# Altium footprint library PcbLib1.PcbLib: 22 footprints (part 1 of 2)
Each footprint in its own frame and in the unit in brackets; x right, y up, seen from the top. Pads: shape width x height; smd on the part's side, far side on the other; paste and mask are expansions set on the pad; w line width, h text height; cw(c..) or ccw(c..) is an arc to the next point about the centre after c.
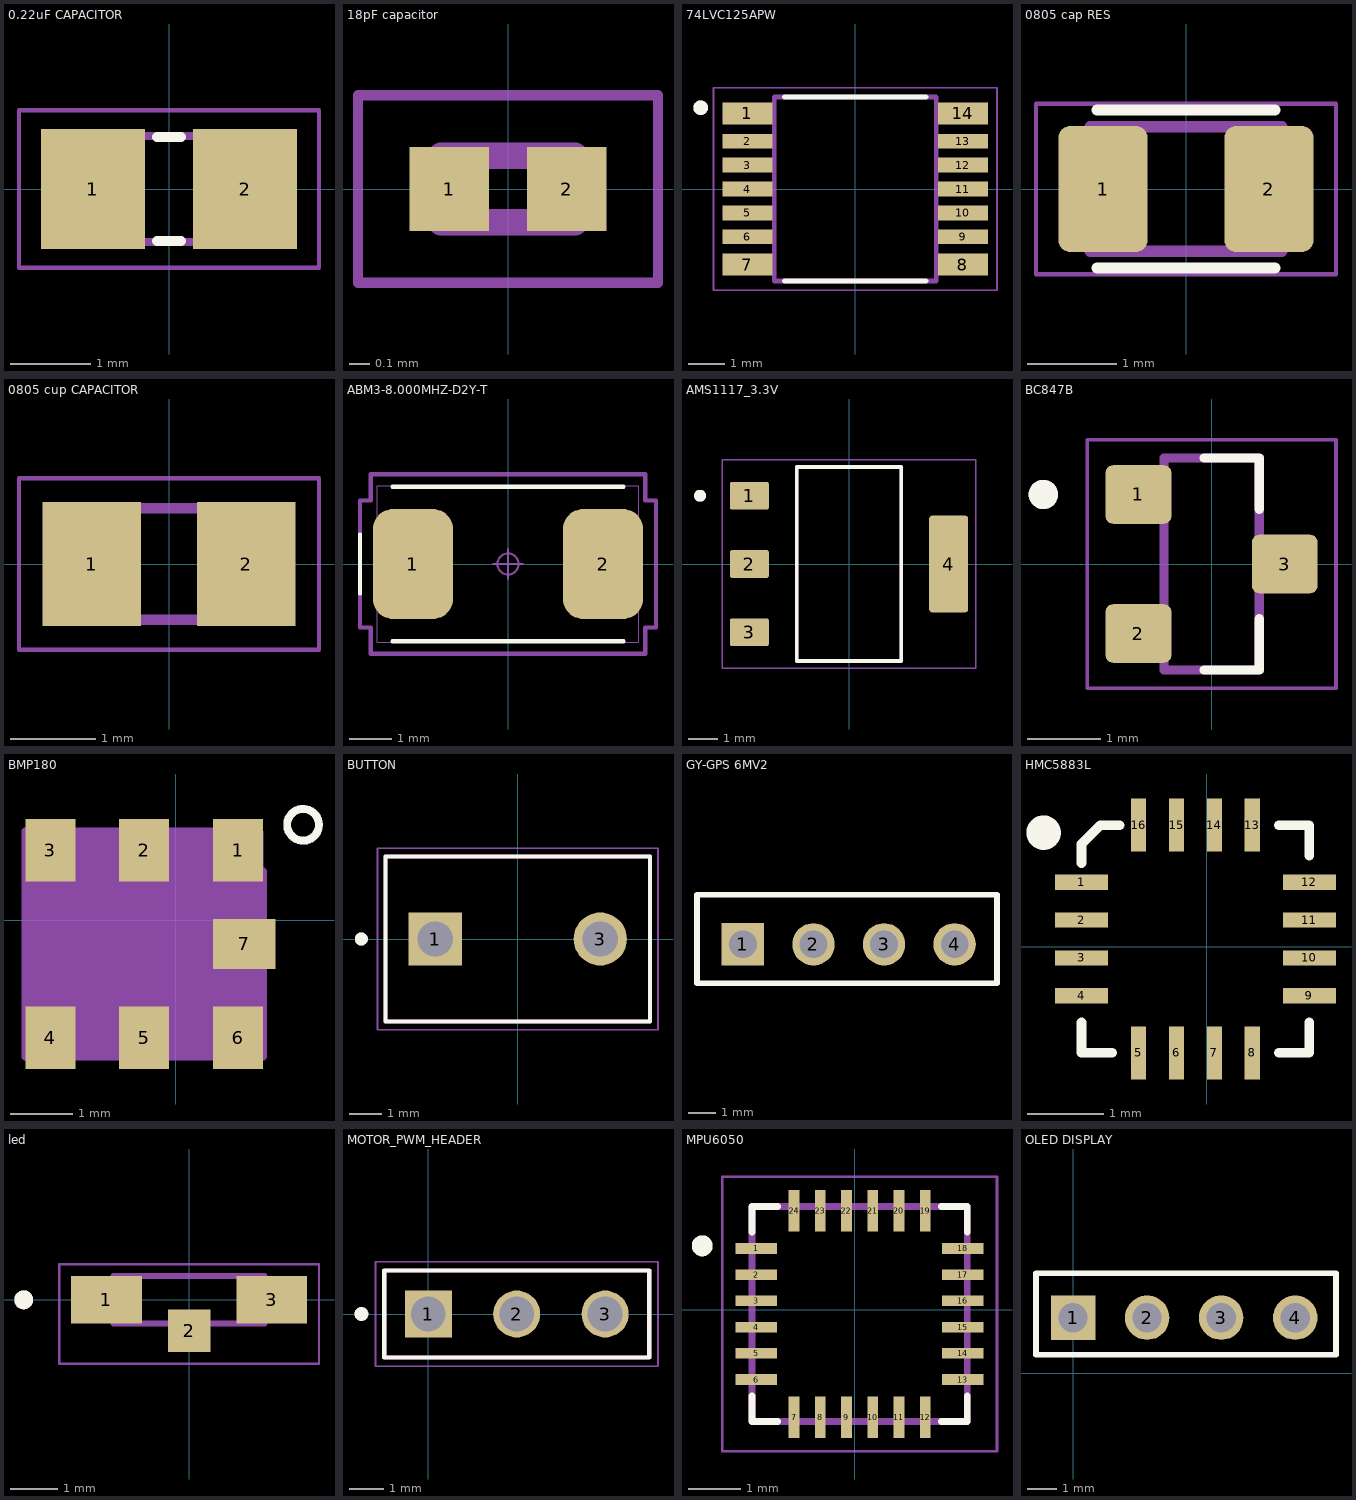
[diagram p0: the footprints below, top view; thin cyan lines are the x and y axes]

## 0.22uF CAPACITOR [mm]
pads (2):
  rect 1.3x1.5 smd: 1(-0.95,0) 2(0.95,0)
Top Overlay:
  lines w0.127: -0.15,-0.65 0.15,-0.65 ; -0.15,0.65 0.15,0.65
Mechanical 13:
  region: -0.342,-0.724 -1.092,-0.724 -1.092,0.726 -0.342,0.726
  region: 1.106,-0.724 0.356,-0.724 0.356,0.726 1.106,0.726
  lines w0.102: -0.381,0.66 0.381,0.66 ; -0.356,-0.66 0.381,-0.66
Mechanical 15:
  lines w0.051: -1.873,-0.983 1.873,-0.983 1.873,0.983 -1.873,0.983 -1.873,-0.983
3D body "CC0805KPX7R7BB224.STEP": height 0.61, standoff 0.01, extent -1,-0.635 1,0.615

## 18pF capacitor [mm]
pads (2):
  rect 0.38x0.4 smd: 1(-0.281,0) 2(0.281,0)
Mechanical 13:
  lines w0.127: -0.32,-0.16 -0.32,0.16 0.32,0.16 0.32,-0.16 -0.32,-0.16
Mechanical 15:
  lines w0.05: -0.718,-0.448 -0.718,0.448 0.718,0.448 0.718,-0.448 -0.718,-0.448
3D body "step_temp.STEP": height 0.33, standoff 0, extent -0.3,-0.15 0.3,0.15

## 74LVC125APW [mm]
pads (14):
  rect 1.35x0.6 smd paste-0.05: 1(-2.925,2.05) 7(-2.925,-2.05) 8(2.925,-2.05) 14(2.925,2.05)
  rect 1.35x0.4 smd paste-0.05: 2(-2.925,1.3) 3(-2.925,0.65) 4(-2.925,0) 5(-2.925,-0.65) 6(-2.925,-1.3) 9(2.925,-1.3) 10(2.925,-0.65) 11(2.925,0) 12(2.925,0.65) 13(2.925,1.3)
Top Overlay:
  circle w0.2: c-4.195,2.207 r0.1
  lines w0.127: -1.93,-2.5 1.93,-2.5 ; -1.93,2.5 1.93,2.5
Mechanical 13:
  circle w0.2: c-4.195,2.207 r0.1
  lines w0.127: -2.2,-2.5 -2.2,2.5 2.2,2.5 2.2,-2.5 -2.2,-2.5
Mechanical 15:
  lines w0.05: -3.85,-2.75 3.85,-2.75 3.85,2.75 -3.85,2.75 -3.85,-2.75
3D body "step_temp.STEP": height 1.1, standoff 0, extent -3.2,-2.5 3.2,2.5

## 0805 cap RES [mm]
pads (2):
  rrect25% 1x1.42 smd: 1(-0.935,0) 2(0.935,0)
Top Overlay:
  lines w0.127: -1,-0.89 1,-0.89 ; -1,0.89 1,0.89
Mechanical 13:
  lines w0.127: -1.08,-0.7 -1.08,0.7 1.08,0.7 1.08,-0.7 -1.08,-0.7
Mechanical 15:
  lines w0.05: -1.69,-0.96 -1.69,0.96 1.69,0.96 1.69,-0.96 -1.69,-0.96
3D body "step_temp.STEP": height 0.6, standoff 0, extent -1,-0.625 1,0.625

## 0805 cup CAPACITOR [mm]
pads (2):
  rect 1.15x1.45 smd: 1(-0.9,0) 2(0.9,0)
Mechanical 13:
  lines w0.127: -1,-0.65 -1,0.65 1,0.65 1,-0.65 -1,-0.65
Mechanical 15:
  lines w0.05: -1.75,-1 -1.75,1 1.75,1 1.75,-1 -1.75,-1
3D body "step_temp.STEP": height 0.94, standoff 0, extent -1.005,-0.625 1.005,0.625

## ABM3-8.000MHZ-D2Y-T [mm] "8MHz CRYSTAL"
pads (2):
  rrect50% 1.9x2.6 smd paste+0 mask+0.04: 1(-2.25,0) 2(2.25,0)
Top Overlay:
  lines w0.1: -3.5,-0.7 -3.5,0.7 ; -2.73,-1.829 2.73,-1.829 ; -2.73,1.829 2.73,1.829
Mechanical 13:
  circle w0.025: c-2.095,0 r0.076
  lines w0.025: -3.1,-1.85 -3.1,1.85 3.1,1.85 3.1,-1.85 -3.1,-1.85
Mechanical 15:
  circle w0.05: c0,0 r0.25
  lines w0.05: -0.35,0 0.35,0 ; 0,-0.35 0,0.35
  lines w0.1: -3.5,-1.5 -3.5,1.5 -3.25,1.5 -3.25,2.125 3.25,2.125 3.25,1.5 3.5,1.5 3.5,-1.5 3.25,-1.5 3.25,-2.125 -3.25,-2.125 -3.25,-1.5 -3.5,-1.5
3D body "Library-ABM7.step": height 1.39, standoff -0.01, extent -3.1,-1.85 3.1,1.85

## AMS1117_3.3V [mm]
pads (4):
  rrect15% 1.31x0.93 smd: 1(-3.345,2.29) 2(-3.345,0) 3(-3.345,-2.29)
  rrect15% 1.31x3.24 smd: 4(3.345,0)
Top Overlay:
  circle w0.2: c-5,2.29 r0.1
  lines w0.127: -1.753,-3.253 1.753,-3.253 1.753,3.253 -1.753,3.253 -1.753,-3.253
Mechanical 13:
  circle w0.2: c-5,2.29 r0.1
  lines w0.127: -1.753,-3.253 1.753,-3.253 1.753,3.253 -1.753,3.253 -1.753,-3.253
Mechanical 15:
  lines w0.05: -4.25,-3.502 -4.25,3.502 4.25,3.502 4.25,-3.502 -4.25,-3.502
3D body "step_temp.STEP": height 1.8, standoff 0, extent -3.499,-3.251 3.499,3.251

## BC847B [mm]
pads (3):
  rrect25% 0.9x0.8 smd: 1(-1,0.95) 2(-1,-0.95) 3(1,0)
Top Overlay:
  circle w0.2: c-2.3,0.95 r0.1
  lines w0.127: -0.1,-1.45 0.65,-1.45 0.65,-0.75 ; -0.1,1.45 0.65,1.45 0.65,0.75
Mechanical 13:
  circle w0.2: c-2.3,0.95 r0.1
  lines w0.127: -0.65,-1.45 -0.65,1.45 0.65,1.45 0.65,-1.45 -0.65,-1.45
Mechanical 15:
  lines w0.05: -1.7,-1.7 -1.7,1.7 1.7,1.7 1.7,-1.7 -1.7,-1.7
3D body "step_temp.STEP": height 1.28, standoff -0.02, extent -1.33,-1.52 1.27,1.52

## BMP180 [mm]
pads (7):
  rect 0.8x1 smd: 1(0.992,1.119) 2(-0.508,1.119) 3(-2.008,1.119) 4(-2.008,-1.881) 5(-0.508,-1.881) 6(0.992,-1.881)
  rect 1x0.8 smd: 7(1.092,-0.381)
Top Overlay:
  circle w0.127: c2.032,1.524 r0.254
Mechanical 13:
  lines w0.127: -2.408,-2.181 1.392,-2.181 1.392,0.774 0.747,1.419 -2.408,1.419 -2.408,-2.181
Mechanical 15:
  region: 1.392,-2.183 -2.41,-2.183 -2.41,1.419 1.392,1.419
3D body "BMP180--3DModel-STEP-269445.STEP": height 1.01, standoff 0.01, extent -2.398,-2.203 1.402,1.397

## BUTTON [mm]
pads (2):
  rect 1.635x1.635 / inner round 1.635 / far side rect 1.635x1.635 hole 1.09: 1(-2.54,0)
  round 1.635 hole 1.09: 3(2.54,0)
Top Overlay:
  circle w0.2: c-4.815,0 r0.1
  lines w0.127: -4.065,-2.54 -4.065,2.54 4.065,2.54 4.065,-2.54 -4.065,-2.54
Mechanical 13:
  circle w0.2: c-4.815,0 r0.1
  lines w0.127: -4.065,-2.54 -4.065,2.54 4.065,2.54 4.065,-2.54 -4.065,-2.54
Mechanical 15:
  lines w0.05: -4.315,-2.79 4.315,-2.79 4.315,2.79 -4.315,2.79 -4.315,-2.79
3D body "step_temp.STEP": height 18.85, standoff -3.3, extent -4.065,-2.543 4.065,2.54

## GY-GPS 6MV2 [mil]
pads (4):
  rect 60x60 hole 39.37: 1(-17810,505)
  round 60 hole 39.37: 2(-17710,505) 3(-17610,505) 4(-17510,505)
Top Overlay:
  lines w7.87: -17875,450 -17875,575 -17450,575 -17450,450 -17875,450
3D body "61300411121.stp": height 341.22, standoff -113.11, extent -17855,455 -17455,555
3D body "User Library-GY-GPS6MV2.STEP": height 262.8, standoff 125, extent -18180.75,430 -17149.25,1823.7

## HMC5883L [mil]
pads (16):
  rect 27.56x8 smd: 1(-65,33.58) 2(-65,13.9) 3(-65,-5.79) 4(-65,-25.47) 9(53.11,-25.47) 10(53.11,-5.79) 11(53.11,13.9) 12(53.11,33.58)
  rect 8x27.56 smd: 5(-35.47,-55) 6(-15.79,-55) 7(3.9,-55) 8(23.58,-55) 13(23.58,63.11) 14(3.9,63.11) 15(-15.79,63.11) 16(-35.47,63.11)
Top Overlay:
  circle w10: c-84.69,59.17 r3.94
  lines w5: -65,-39.25 -65,-55 -49.25,-55 ; -65,43.43 -65,53.27 -55.16,63.11 -45.31,63.11 ; 37.36,-55 53.11,-55 53.11,-39.25 ; 37.36,63.11 53.11,63.11 53.11,47.36
3D body "HMC5883L-T--3DModel-STEP-269445.STEP": height 35.93, standoff 0.5, extent -64.06,-54.06 54.06,64.06

## led [mm]
pads (3):
  rect 1.5x1 smd: 1(-1.75,0) 3(1.75,0)
  rect 0.9x0.9 smd: 2(0,-0.65)
Top Overlay:
  circle w0.2: c-3.5,0 r0.1
Mechanical 13:
  circle w0.2: c-3.5,0 r0.1
  lines w0.127: -1.6,-0.5 -1.6,0.5 1.6,0.5 1.6,-0.5 -1.6,-0.5
Mechanical 15:
  lines w0.05: -2.75,-1.35 2.75,-1.35 2.75,0.75 -2.75,0.75 -2.75,-1.35
3D body "step_temp.STEP": height 1.5, standoff 0, extent -1.6,-0.5 1.6,0.5

## MOTOR_PWM_HEADER [mm]
pads (3):
  rect 1.35x1.35 / inner round 1.35 / far side rect 1.35x1.35 hole 1: 1(0,0)
  round 1.35 hole 1: 2(2.54,0) 3(5.08,0)
Top Overlay:
  circle w0.2: c-1.92,0 r0.1
  lines w0.127: -1.27,-1.25 6.35,-1.25 6.35,1.25 -1.27,1.25 -1.27,-1.25
Mechanical 13:
  circle w0.2: c-1.92,0 r0.1
  lines w0.127: -1.27,-1.25 6.35,-1.25 ; -1.27,-1.25 6.35,-1.25 ; -1.27,-1.25 -1.27,1.25 6.35,1.25 6.35,-1.25
Mechanical 15:
  lines w0.05: -1.52,-1.5 6.6,-1.5 6.6,1.5 -1.52,1.5 -1.52,-1.5
3D body "826926-3--3DModel-STEP-1.STEP": height 9.75, standoff -2.95, extent -1.27,-1.25 6.35,1.25

## MPU6050 [mil]
pads (24):
  rect 31.1x8 smd: 1(-73.98,45.88) 2(-73.98,26.19) 3(-73.98,6.51) 4(-73.98,-13.18) 5(-73.98,-32.86) 6(-73.98,-52.55) 13(81.14,-52.55) 14(81.14,-32.86) 15(81.14,-13.18) 16(81.14,6.51) 17(81.14,26.19) 18(81.14,45.88)
  rect 8x31.1 smd: 7(-45.63,-80.9) 8(-25.95,-80.9) 9(-6.26,-80.9) 10(13.42,-80.9) 11(33.11,-80.9) 12(52.8,-80.9) 19(52.8,74.22) 20(33.11,74.22) 21(13.42,74.22) 22(-6.26,74.22) 23(-25.95,74.22) 24(-45.63,74.22)
Top Overlay:
  circle w7.87: c-114.53,47.85 r3.94
  lines w5: -77.13,-64.75 -77.13,-84.04 -57.83,-84.04 ; -77.13,58.08 -77.13,77.37 -57.83,77.37 ; 65,-84.04 84.29,-84.04 84.29,-64.75 ; 65,77.37 84.29,77.37 84.29,58.08
Mechanical 13:
  lines w5: -77.13,-84.04 -77.13,77.37 84.29,77.37 84.29,-84.04 -77.13,-84.04
Mechanical 15:
  lines w1.97: -99.57,-106.49 -99.57,99.81 106.73,99.81 106.73,-106.49 -99.57,-106.49
3D body "step_temp.STEP": height 36.61, standoff -0.79, extent -75.16,-82.08 82.32,75.4

## OLED DISPLAY [mil]
pads (4):
  rect 60x60 hole 39.37: 1(0,75)
  round 60 hole 39.37: 2(100,75) 3(200,75) 4(300,75)
Top Overlay:
  lines w7.87: -50,25 355,25 355,135 -50,135 -50,25
3D body "DM-OLED096-636--3DModel-STEP-56544.STEP": height 522.83, standoff 77.95, extent -365,16.38 658.62,1040
3D body "User Library-RM254_4pin.sldprt": height 276.38, standoff -82.68, extent -50,30 350,130